# Altium integrated library NCP115CMX120TCG.IntLib: 1 symbol
Pins are listed as number, name and electrical type; pins without a type are passive.

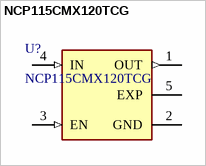
[diagram p0: symbol NCP115CMX120TCG]

## NCP115CMX120TCG
designator U?
Linear Voltage Regulator IC Positive Fixed 1 Output 300mA 4-XDFN (1x1); MF: ON Semiconductor; MP: NCP115CMX120TCG; Purchase-URL: https://pricing.snapeda.com/search/part/NCP115CMX120TCG/?ref=eda; SnapEDA_Link: https://www.snapeda.com/parts/NCP115CMX120TCG/Onsemi/view-part/?ref=snap; Price: None; Package: XDFN-4 ON Semiconductor; Value: *; Check_prices: https://www.snapeda.com/parts/NCP115CMX120TCG/Onsemi/view-part/?ref=eda; Availability: In Stock
footprint VREG_NCP115CMX120TCG
pins: 1 OUT (out), 2 GND (power), 3 EN (in), 4 IN (in), 5 EXP (power)